# Altium footprint library PCB - CONNECTOR - HARWIN - HARWIN M20-9741245.PcbLib: 1 footprints
Each footprint in its own frame and in the unit in brackets; x right, y up, seen from the top. Pads: shape width x height; smd on the part's side, far side on the other; paste and mask are expansions set on the pad; w line width, h text height; cw(c..) or ccw(c..) is an arc to the next point about the centre after c.
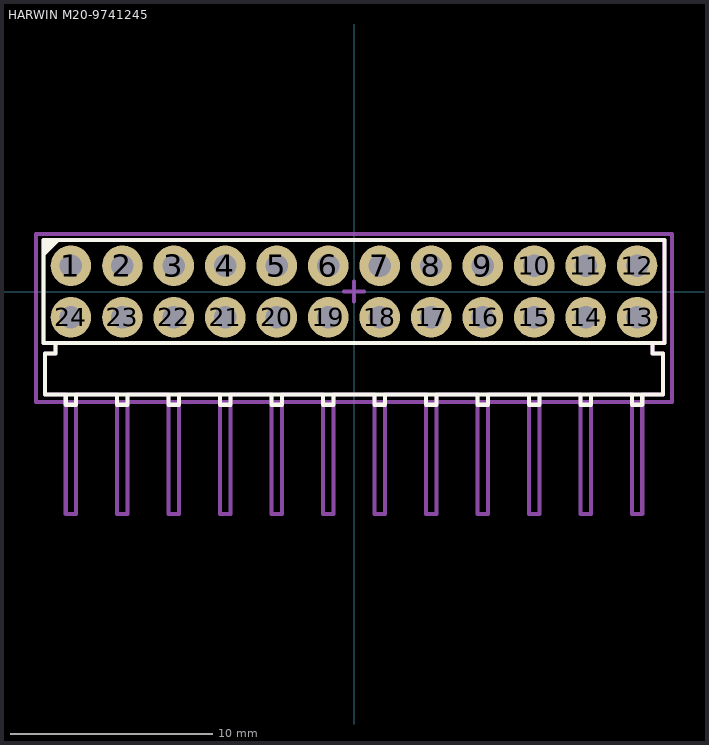
[diagram p0: the footprint, top view; thin cyan lines are the x and y axes]

## HARWIN M20-9741245 [mm] "2.54mm DIL PC TAIL PIN HEADER ASSEMBLY"
height 2.54
pads (24):
  round 2 hole 1.1: 1(-13.97,1.27) 2(-11.43,1.27) 3(-8.89,1.27) 4(-6.35,1.27) 5(-3.81,1.27) 6(-1.27,1.27) 7(1.27,1.27) 8(3.81,1.27) 9(6.35,1.27) 10(8.89,1.27) 11(11.43,1.27) 12(13.97,1.27) 13(13.97,-1.27) 14(11.43,-1.27) 15(8.89,-1.27) 16(6.35,-1.27) 17(3.81,-1.27) 18(1.27,-1.27) 19(-1.27,-1.27) 20(-3.81,-1.27) 21(-6.35,-1.27) 22(-8.89,-1.27) 23(-11.43,-1.27) 24(-13.97,-1.27)
Top Overlay:
  region: -15.35,2.57 -15.35,1.67 -14.45,2.57
  lines w0.2: -14.732,-2.54 -14.732,-3.048 -15.24,-3.048 -15.24,-5.08 15.24,-5.08 15.24,-3.048 14.732,-3.048 14.732,-2.54 ; -14.224,-5.08 -14.224,-5.588 -13.716,-5.588 -13.716,-5.08 ; -11.684,-5.08 -11.684,-5.588 -11.176,-5.588 -11.176,-5.08 ; -9.144,-5.08 -9.144,-5.588 -8.636,-5.588 -8.636,-5.08 ; -6.604,-5.08 -6.604,-5.588 -6.096,-5.588 -6.096,-5.08 ; -4.064,-5.08 -4.064,-5.588 -3.556,-5.588 -3.556,-5.08 ; -1.524,-5.08 -1.524,-5.588 -1.016,-5.588 -1.016,-5.08 ; 1.016,-5.08 1.016,-5.588 1.524,-5.588 1.524,-5.08 ; 3.556,-5.08 3.556,-5.588 4.064,-5.588 4.064,-5.08 ; 6.096,-5.08 6.096,-5.588 6.604,-5.588 6.604,-5.08 ; 8.636,-5.08 8.636,-5.588 9.144,-5.588 9.144,-5.08 ; 11.176,-5.08 11.176,-5.588 11.684,-5.588 11.684,-5.08 ; 13.716,-5.08 13.716,-5.588 14.224,-5.588 14.224,-5.08 ; -15.33,-2.54 15.33,-2.54 15.33,2.54 -15.33,2.54 -15.33,-2.54
Top Assembly:
  lines w0.2: -14.224,-2.54 -14.732,-2.54 -14.732,-3.048 -15.24,-3.048 -15.24,-5.08 -14.224,-5.08 -14.224,-10.97 -13.716,-10.97 -13.716,-5.08 -11.684,-5.08 -11.684,-10.97 -11.176,-10.97 -11.176,-5.08 -9.144,-5.08 -9.144,-10.97 -8.636,-10.97 -8.636,-5.08 -6.604,-5.08 -6.604,-10.97 -6.096,-10.97 -6.096,-5.08 -4.064,-5.08 -4.064,-10.97 -3.556,-10.97 -3.556,-5.08 -1.524,-5.08 -1.524,-10.97 -1.016,-10.97 -1.016,-5.08 1.016,-5.08 1.016,-10.97 1.524,-10.97 1.524,-5.08 3.556,-5.08 3.556,-10.97 4.064,-10.97 4.064,-5.08 6.096,-5.08 6.096,-10.97 6.604,-10.97 6.604,-5.08 8.636,-5.08 8.636,-10.97 9.144,-10.97 9.144,-5.08 11.176,-5.08 11.176,-10.97 11.684,-10.97 11.684,-5.08 13.716,-5.08 13.716,-10.97 14.224,-10.97 14.224,-5.08 15.24,-5.08 15.24,-3.048 14.732,-3.048 14.732,-2.54 14.224,-2.54 ; -0.5,0 0.5,0 ; 0,-0.5 0,0.5 ; -15.33,-2.54 -15.33,2.54 15.33,2.54 15.33,-2.54 -15.33,-2.54
Top Courtyard (Mech15):
  lines w0.2: -15.7,-5.454 -15.7,2.83 15.7,2.83 15.7,-5.454 -15.7,-5.454
3D body "M20-7831242.step": height 5, standoff -3.04, extent -15.24,-10.97 15.24,1.59